# EAGLE library part EA_OLEDS102-6 (library ea_v66)
ELECTRONIC ASSEMBLY EA OLEDS102-LGA EA OLEDS102-LWA EA OLEDS102-GGA
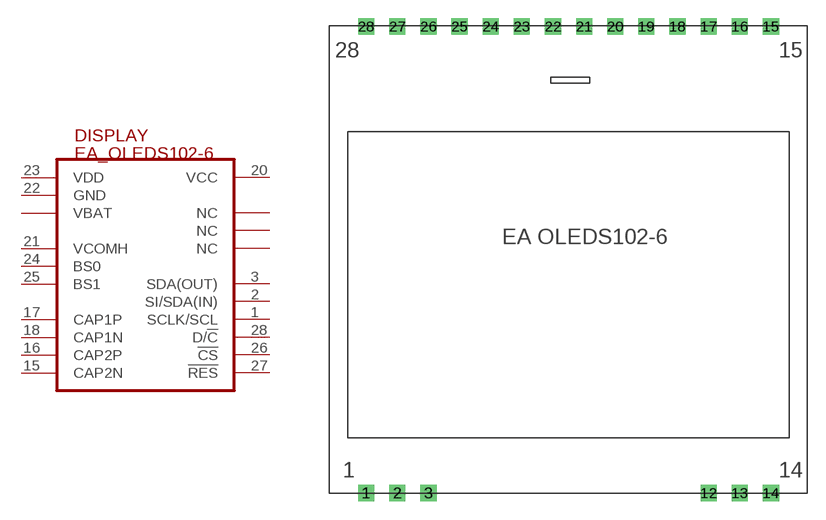
[diagram p19: symbol with the pads of EA_OLEDS102-6; footprint EA_OLEDS102-6]

Designator prefix DISPLAY

## EA_OLEDS102-6  [EA_OLEDS102-6]
1  SCLK/SCL  in
2  SI/SDA(IN)  in
3  SDA(OUT)  out
15  CAP2N  pas
16  CAP2P  pas
17  CAP1P  pas
18  CAP1N  pas
20  VCC  pwr
21  VCOMH  pas
22  GND  pwr
23  VDD  pwr
24  BS0  in
25  BS1  in
26  !CS!  in
27  !RES!  in
28  D/!C!  in

## Footprint EA_OLEDS102-6 (pad centres in mm)
drill 0.813 square: 1 0,0; 2 2.54,0; 3 5.08,0; 12 27.94,0; 13 30.48,0; 14 33.02,0; 15 33.02,38.1; 16 30.48,38.1; 17 27.94,38.1; 18 25.4,38.1; 19 22.86,38.1; 20 20.32,38.1; 21 17.78,38.1; 22 15.24,38.1; 23 12.7,38.1; 24 10.16,38.1; 25 7.62,38.1; 26 5.08,38.1; 27 2.54,38.1; 28 0,38.1